# EAGLE library part MICRO-SD-NOCD (library TFWF1-EBXX-1X0X)
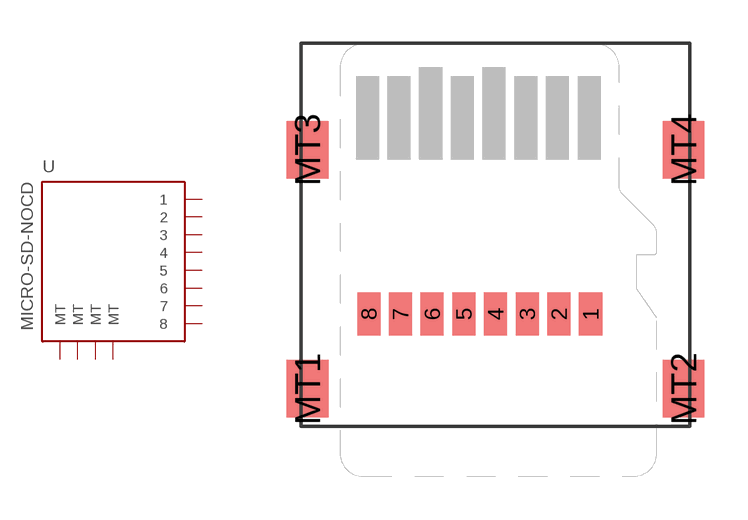
[diagram p1: symbol with the pads of TF-MICRO-SD_FLIP; footprint TF-MICRO-SD_FLIP]

Designator prefix -

## MICRO-SD-NOCD  [TF-MICRO-SD_FLIP]
1  1
2  2
3  3
4  4
5  5
6  6
7  7
8  8
MT1  MT  pwr
MT2  MT  pwr
MT3  MT  pwr
MT4  MT  pwr

## Footprint TF-MICRO-SD_FLIP (pad centres in mm)
smd 0.8 x 1.5: 1 3.3,2.6; 2 2.2,2.6; 3 1.1,2.6; 4 0,2.6; 5 -1.1,2.6; 6 -2.2,2.6; 7 -3.3,2.6; 8 -4.4,2.6
smd 1.45 x 2: MT1 -6.53,0; MT2 6.53,0; MT3 -6.53,8.3; MT4 6.53,8.3